# Altium footprint library DPAK.PcbLib: 1 footprints
Each footprint in its own frame and in the unit in brackets; x right, y up, seen from the top. Pads: shape width x height; smd on the part's side, far side on the other; paste and mask are expansions set on the pad; w line width, h text height; cw(c..) or ccw(c..) is an arc to the next point about the centre after c.
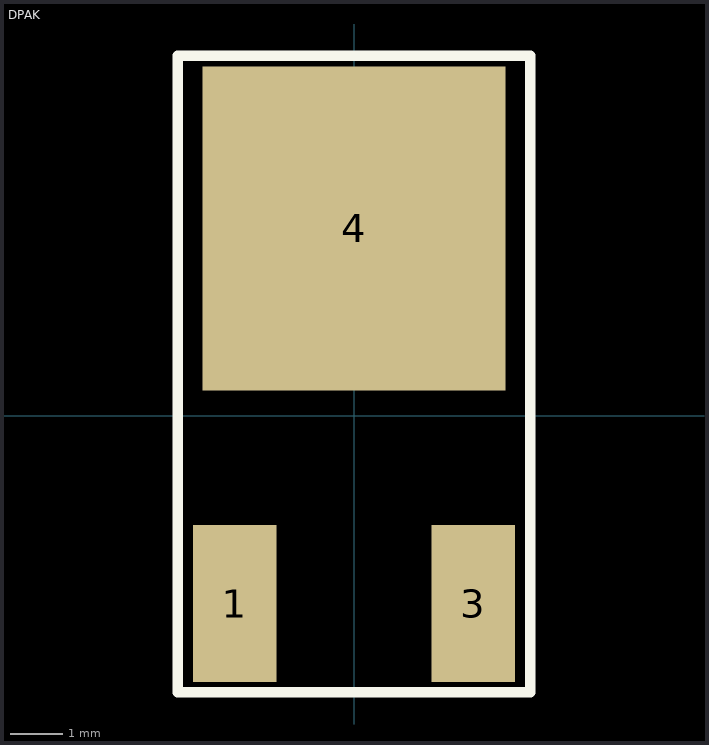
[diagram p0: the footprint, top view; thin cyan lines are the x and y axes]

## DPAK [mm]
height 0.9
pads (3):
  rect 1.6x3 smd: 1(-2.285,-3.59) 3(2.285,-3.59)
  rect 5.8x6.2 smd: 4(0,3.59)
Top Overlay:
  lines w0.2: -3.375,-5.285 -3.375,6.89 3.375,6.89 3.375,-5.285 -3.375,-5.285
Top Assembly:
  lines w0.1: -3.375,-5.285 -3.375,6.89 3.375,6.89 3.375,-5.285 -3.375,-5.285
  text "'.Designator'" at -0.95,1.94 h0.7
3D body "User Library-DPAK_TO-252AA.step": height 2.37, standoff -0.03, extent -3.367,-3.808 3.367,6.292